# Altium integrated library Altium Nanoboard Project.IntLib: 55 symbols
Pins are listed as number, name and electrical type; pins without a type are passive.

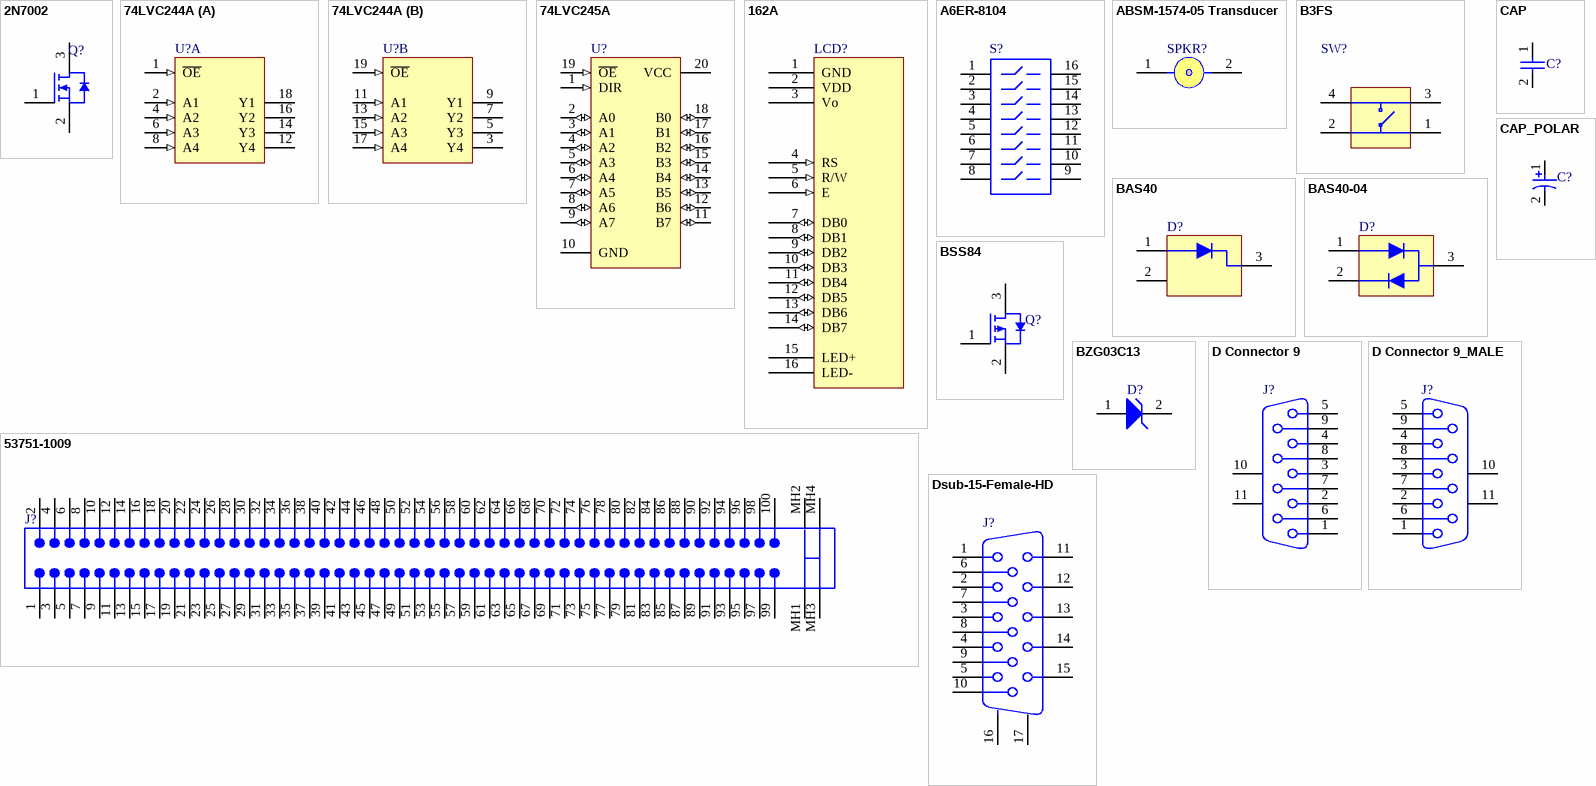
[diagram p0: symbols 2N7002 to Dsub-15-Female-HD]

## 2N7002
designator Q?
N-Channel Enhancement Mode FET; Published: 5-Jan-2004; DatasheetDocument: Rev A1, 1997; Publisher: Altium Limited
footprint SO-G3 (SOT-23; 3 Leads; 1.9mm x 2.2 mm (LxW))
pcadlib SO-G3 (SOT-23; 3 Leads; 1.9mm x 2.2 mm (LxW))
pins: 1 G "Gate", 2 S "Source", 3 D "Drain"

## 74LVC244A
designator U?
Octal Buffer/Driver with 3-State Outputs; Published: 5-Jan-2004; DatasheetDocument: Aug-2003; Publisher: Altium Limited
footprint SSO-G20/P.65 (SSOP; 20 Leads; Body Width 5.3 mm; Pitch 0.65 mm)
pcadlib SSO-G20/P.65 (SSOP; 20 Leads; Body Width 5.3 mm; Pitch 0.65 mm)
pins on every part: 10 GND (power) hidden to GND, 20 VCC (power) hidden to VCC
part A pins: 1 ~{OE} (in), 2 A1 (in), 4 A2 (in), 6 A3 (in), 8 A4 (in), 12 Y4 (hiz), 14 Y3 (hiz), 16 Y2 (hiz), 18 Y1 (hiz)
part B pins: 3 Y4 (hiz), 5 Y3 (hiz), 7 Y2 (hiz), 9 Y1 (hiz), 11 A1 (in), 13 A2 (in), 15 A3 (in), 17 A4 (in), 19 ~{OE} (in)

## 74LVC245A
designator U?
Octal Bus Transceiver with 3-State Outputs; Published: 5-Jan-2004; DatasheetDocument: Aug-2003; Publisher: Altium Limited
footprint SSO-G20/P.65 (SSOP; 20 Leads; Body Width 5.3 mm; Pitch 0.65 mm)
pcadlib SSO-G20/P.65 (SSOP; 20 Leads; Body Width 5.3 mm; Pitch 0.65 mm)
pins: 1 DIR (in), 2 A0 (io), 3 A1 (io), 4 A2 (io), 5 A3 (io), 6 A4 (io), 7 A5 (io), 8 A6 (io), 9 A7 (io), 10 GND (power), 11 B7 (io), 12 B6 (io), 13 B5 (io), 14 B4 (io), 15 B3 (io), 16 B2 (io), 17 B1 (io), 18 B0 (io), 19 ~{OE} (in), 20 VCC (power)

## 162A
designator LCD?
16 char * 2 line LCD character display with b/light; Published: 5-Jan-2004; DatasheetDocument: 09-Aug-1999; Publisher: Altium Limited
footprint 162A (Displaytronic, ACM 1602K Series, LCD Module)
pcadlib 162A (Displaytronic, ACM 1602K Series, LCD Module)
pins: 1 GND (power) "VSS - 0V", 2 VDD (power) "VDD - 5V", 3 Vo (hiz) "Input Voltage For LCD", 4 RS (in) "H = Data Signal, L = Instrunction Signal", 5 R/W (in) "H = Read Mode, L = Write Mode", 6 E (in) "Chip Enable (H, H->L)", 7 DB0 (io) "Chip Enable (H, H->L)", 8 DB1 (io) "Chip Enable (H, H->L)", 9 DB2 (io) "Chip Enable (H, H->L)", 10 DB3 (io) "Chip Enable (H, H->L)", 11 DB4 (io) "Chip Enable (H, H->L)", 12 DB5 (io) "Chip Enable (H, H->L)", 13 DB6 (io) "Chip Enable (H, H->L)", 14 DB7 (io) "Chip Enable (H, H->L)", 15 LED+ (power) "LED Backlight +", 16 LED- (power) "LED Backlight -"

## 53751-1009
designator J?
Board-to-Board, Docking Station, 0.80mm (.031") Pitch, Shielded Plug, Vertical, Ultra Low Profile, SMT; Published: 5-Jan-2004; DatasheetDocument: 04-Feb-2002; Publisher: Altium Limited
footprint 53751 (Board-to-Board, Docking Station, 0.80mm (.031") Pitch, Shielded Plug, Vertical, Ultra Low Profile, SMT)
pcadlib 53751 (Board-to-Board, Docking Station, 0.80mm (.031") Pitch, Shielded Plug, Vertical, Ultra Low Profile, SMT)
pins: 1, 2, 3, 4, 5, 6, 7, 8, 9, 10, 11, 12, 13, 14, 15, 16, 17, 18, 19, 20, 21, 22, 23, 24, 25, 26, 27, 28, 29, 30, 31, 32, 33, 34, 35, 36, 37, 38, 39, 40, 41, 42, 43, 44, 45, 46, 47, 48, 49, 50, 51, 52, 53, 54, 55, 56, 57, 58, 59, 60, 61, 62, 63, 64, 65, 66, 67, 68, 69, 70, 71, 72, 73, 74, 75, 76, 77, 78, 79, 80, 81, 82, 83, 84, 85, 86, 87, 88, 89, 90, 91, 92, 93, 94, 95, 96, 97, 98, 99, 100, MH1, MH2, MH2A, MH2B, MH3, MH4, MH4A, MH4B
1 alternate drawing of the same symbol

## A6ER-8104
designator S?
4009 Series DIP Switch, Raised actuator; Published: 5-Jan-2004; Publisher: Altium Limited
footprint DIP-16-KEY (DIP; 16 Leads; Row Spacing 7.62 mm; Pitch 2.54 mm)
pcadlib DIP-16-KEY (DIP; 16 Leads; Row Spacing 7.62 mm; Pitch 2.54 mm)
pins: 1, 2, 3, 4, 5, 6, 7, 8, 9, 10, 11, 12, 13, 14, 15, 16

## ABSM-1574-05 Transducer
designator SPKR?
Magnetic transducer Buzzer; Published: 5-Jan-2004; DatasheetDocument: 17-Dec-2003; Publisher: Altium Limited
footprint ABSM-1574 (Surface Mount Magnetic Buzzer; Body 12.8 x 12.8 mm (LxW))
pcadlib ABSM-1574 (Surface Mount Magnetic Buzzer; Body 12.8 x 12.8 mm (LxW))
pins: 1, 1A, 2, 2A

## B3FS
designator SW?
SPNA SMD Keyboard Switch (TACT Switch); Published: 5-Jan-2004; Publisher: Altium Limited
footprint B3FS_SWITCH (Surface Mount DTSM Tact Switch; Body 6 x 6 mm (LxW))
pcadlib B3FS_SWITCH (Surface Mount DTSM Tact Switch; Body 6 x 6 mm (LxW))
pins: 1, 2, 3, 4

## BAS40
designator D?
Schottky Diode; Published: 5-Jan-2004; DatasheetDocument: Rev. 1.4, 14-Oct-03; Publisher: Altium Limited
footprint SO-G3 (SOT-23; 3 Leads; 1.9mm x 2.2 mm (LxW))
pcadlib SO-G3 (SOT-23; 3 Leads; 1.9mm x 2.2 mm (LxW))
pins: 1, 2, 3

## BAS40-04
designator D?
Dual Schottky Diode, series connected; Published: 5-Jan-2004; DatasheetDocument: Rev. 1.4, 14-Oct-03; Publisher: Altium Limited
footprint SO-G3 (SOT-23; 3 Leads; 1.9mm x 2.2 mm (LxW))
pcadlib SO-G3 (SOT-23; 3 Leads; 1.9mm x 2.2 mm (LxW))
pins: 1, 2, 3

## BSS84
designator Q?
P-Channel Enhancement Mode FET; Published: 5-Jan-2004; DatasheetDocument: RevB, July 2002; Publisher: Altium Limited
footprint SO-G3 (SOT-23; 3 Leads; 1.9mm x 2.2 mm (LxW))
pcadlib SO-G3 (SOT-23; 3 Leads; 1.9mm x 2.2 mm (LxW))
pins: 1 G "Gate", 2 S "Source", 3 D "Drain"

## BZG03C13
designator D?
Zener Diode, 6.2V, 5W; Published: 5-Jan-2004; DatasheetDocument: RevB, 21-Aug-2003; Publisher: Altium Limited
footprint DO214 (2 C-Bend Leads; Body 4.3 x 3.6 mm (LxW))
pcadlib DO214 (2 C-Bend Leads; Body 4.3 x 3.6 mm (LxW))
pins: 1 A, 2 K

## CAP
designator C?
Capacitor, Multi Layer Ceramic; Published: 5-Jan-2004; DatasheetDocument: 11-Apr-03; Publisher: Altium Limited
footprint CC2012-0805 (Surface Mount Capacitor; 0805 Case Size)
pcadlib CC2012-0805 (Surface Mount Capacitor; 0805 Case Size)
pins: 1, 2

## CAP_POLAR
designator C?
Capacitor, Tantalum; Published: 5-Jan-2004; DatasheetDocument: Oct-2002; Publisher: Altium Limited
footprint MCCT-B (Surface Mount Chip Capacitor; Tantalum; 1.9mm x 2.2 mm (LxW))
pcadlib MCCT-B (Surface Mount Chip Capacitor; Tantalum; 1.9mm x 2.2 mm (LxW))
pins: 1, 2

## D Connector 9
designator J?
7906 Series DSUB Right Angle Socket Assembly, 9 Positions; Published: 5-Jan-2004; Publisher: Altium Limited
footprint DSUB1.385-2H9 (7906 Series DSUB Right Angle Socket; Body Width, 30.81mm, 9 Positions)
pcadlib DSUB1.385-2H9 (7906 Series DSUB Right Angle Socket; Body Width, 30.81mm, 9 Positions)
pins: 1, 2, 3, 4, 5, 6, 7, 8, 9, 10 MH1, 11 MH2

## D Connector 9_MALE
designator J?
7906 Series DSUB Right Angle Plug Assembly, 9 Positions; Published: 5-Jan-2004; Publisher: Altium Limited
footprint DSUB1.9_MALE (7906 Series DSUB Right Angle Plug; Body Width, 30.81mm, 9 Positions)
pcadlib DSUB1.9_MALE (7906 Series DSUB Right Angle Plug; Body Width, 30.81mm, 9 Positions)
pins: 1, 2, 3, 4, 5, 6, 7, 8, 9, 10 MH1, 11 MH2

## Dsub-15-Female-HD
designator J?
7915 Series Dsub-15 High density VGA Female connector; Published: 5-Jan-2004; Publisher: Altium Limited
footprint DB15-VGA-Female (7915 Series DSUB Right Angle VGA Female connector; Body Width, 30.81mm, 15 Positions)
pcadlib DB15-VGA-Female (7915 Series DSUB Right Angle VGA Female connector; Body Width, 30.81mm, 15 Positions)
pins: 1 "Red Video", 2 "Green Video", 3 "Blue Video", 4 "Monitor ID Bit 2 (Ground)", 5 (power) "Ground", 6 (power) "Red Return (Ground)", 7 (power) "Green Return (Ground)", 8 (power) "Blue Return (Ground)", 9 "Key (not used)", 10 (power) "Sync Return (Ground)", 11 (power) "Monitor ID Bit 0 (Ground)", 12 "Monitor ID Bit 1 (Not Used)", 13 "Horizontal Zync", 14 "Vertical Sync", 15 "Vertical Sync", 16 MH1 "shield", 17 MH2 "shield"

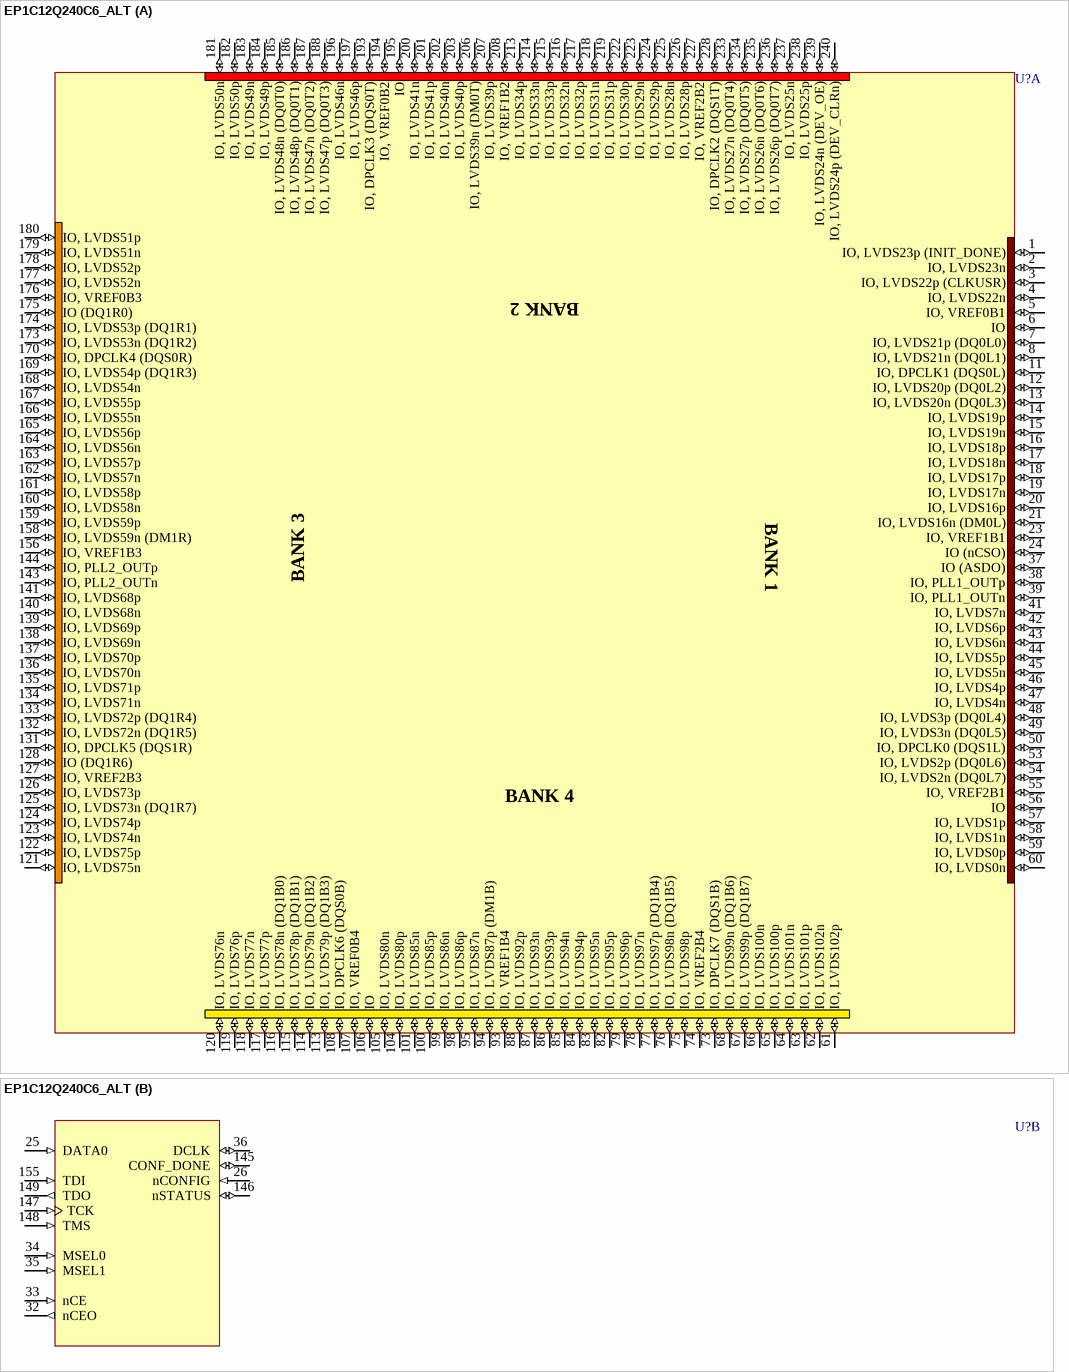
[diagram p1: symbol EP1C12Q240C6_ALT]

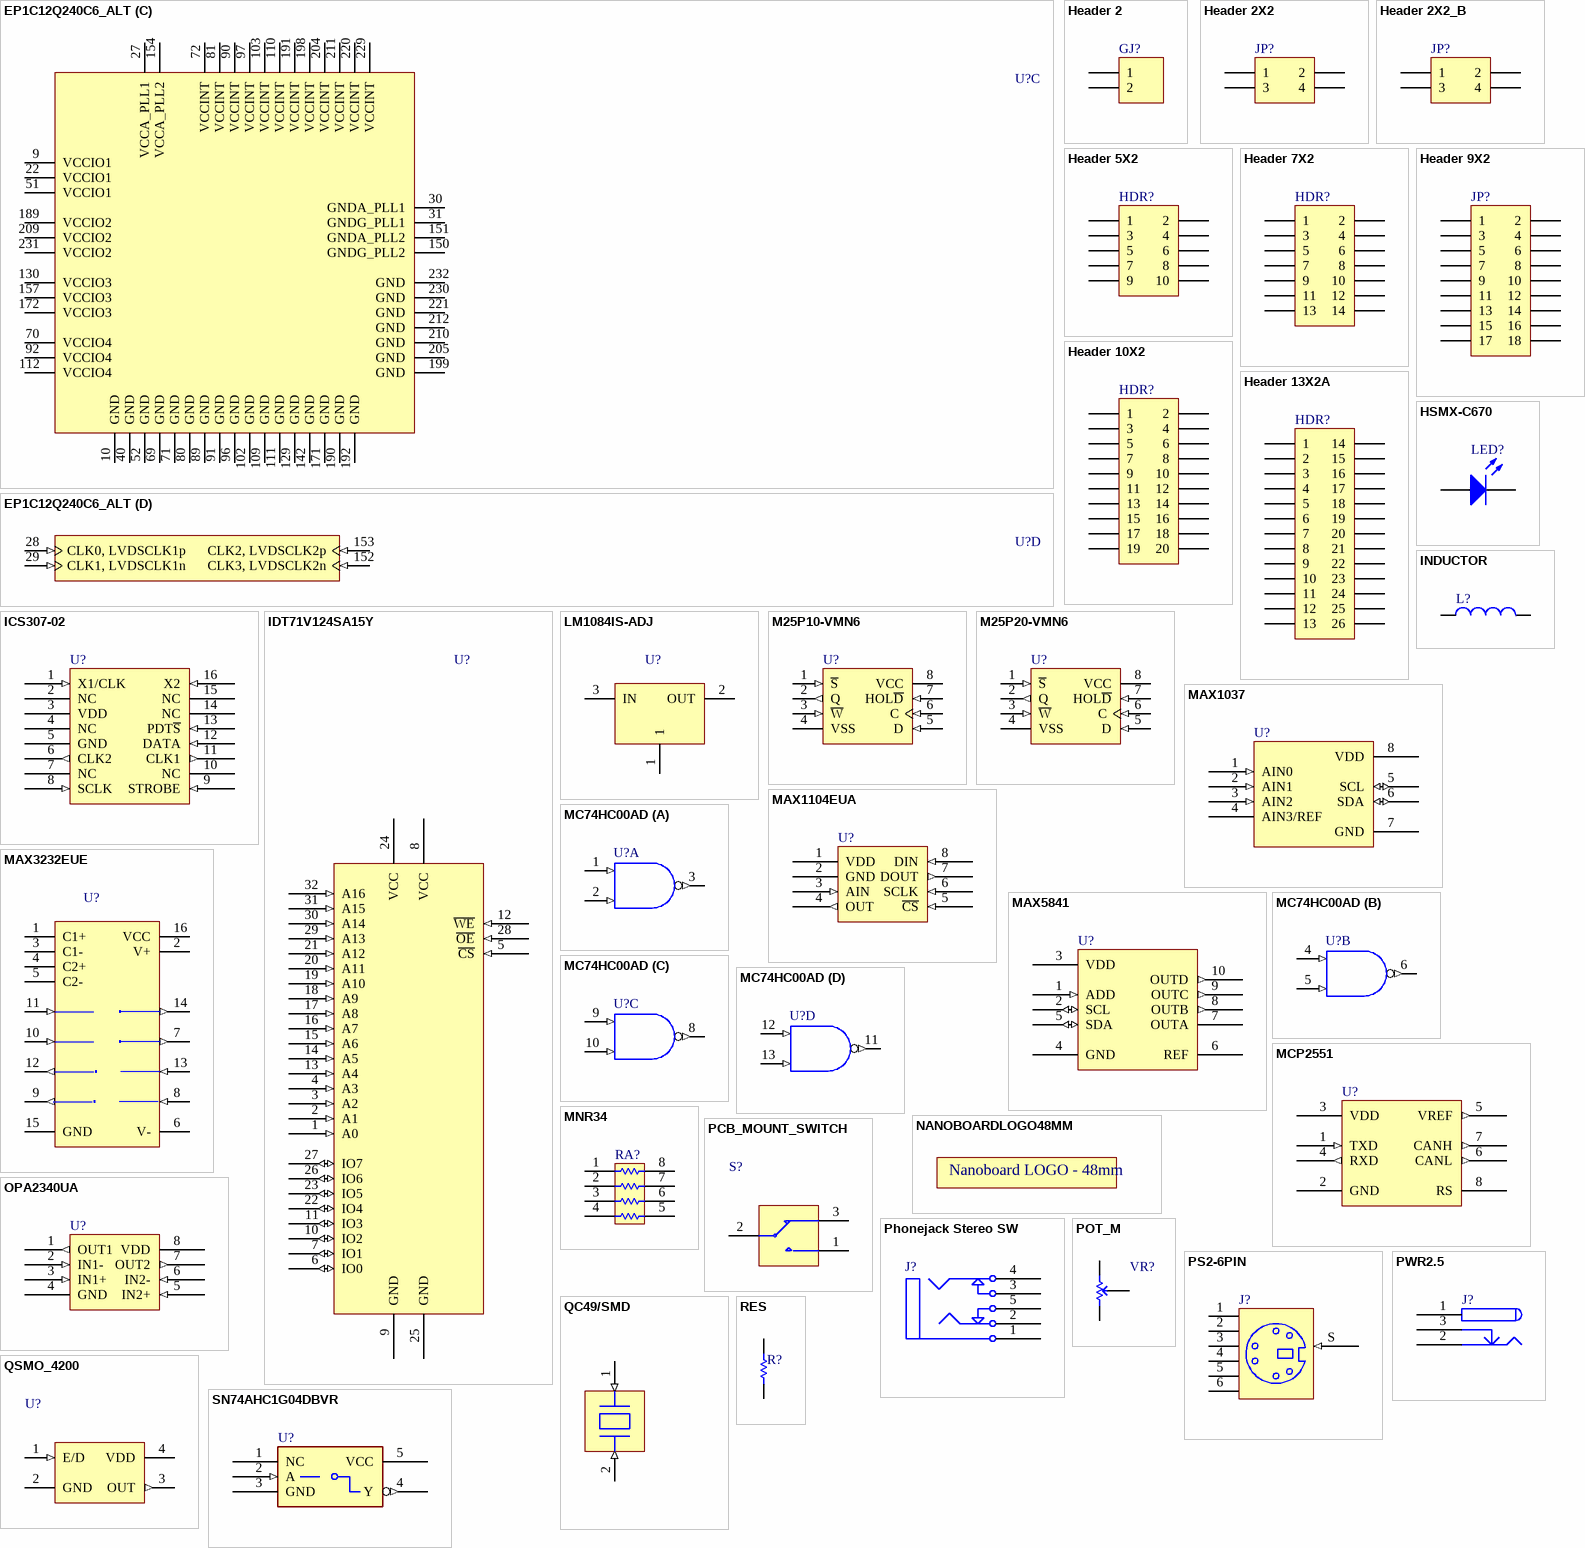
[diagram p2: symbols EP1C12Q240C6_ALT to SN74AHC1G04DBVR]

## EP1C12Q240C6_ALT
designator U?
Cyclone Family, 1.5V FPGA, 173 I/O Pins, 2 x PLLs, Commercial Grade, Speed Grade 6; PackageDocument: ver11.0, Feb-2003; Note: EP1C12Q240C6 in our IntLibs; Published: 17-Sep-2003; DatasheetDocument: ver1.3, Oct-2003; PackageReference: PQFP240; Publisher: Altium Limited; Code_JEDEC: MS-029-GA
footprint F-QFP32X32-G240/P.5N(RS) (240-Pin Plastic Quad Flat Pack (PQFP))
pcadlib F-QFP32X32-G240/P.5N(RS) (240-Pin Plastic Quad Flat Pack (PQFP))
3D model EP1C12-PQFP240 (240-Pin Plastic Quad Flat Pack (PQFP))
signal-integrity model 1c (Cyclone)
part A pins: 1 IO, LVDS23p (INIT_DONE) (io), 2 IO, LVDS23n (io), 3 IO, LVDS22p (CLKUSR) (io), 4 IO, LVDS22n (io), 5 IO, VREF0B1 (io), 6 IO (io), 7 IO, LVDS21p (DQ0L0) (io), 8 IO, LVDS21n (DQ0L1) (io), 11 IO, DPCLK1 (DQS0L) (io), 12 IO, LVDS20p (DQ0L2) (io), 13 IO, LVDS20n (DQ0L3) (io), 14 IO, LVDS19p (io), 15 IO, LVDS19n (io), 16 IO, LVDS18p (io), 17 IO, LVDS18n (io), 18 IO, LVDS17p (io), 19 IO, LVDS17n (io), 20 IO, LVDS16p (io), 21 IO, LVDS16n (DM0L) (io), 23 IO, VREF1B1 (io), 24 IO (nCSO) (io), 37 IO (ASDO) (io), 38 IO, PLL1_OUTp (io), 39 IO, PLL1_OUTn (io), 41 IO, LVDS7n (io), 42 IO, LVDS6p (io), 43 IO, LVDS6n (io), 44 IO, LVDS5p (io), 45 IO, LVDS5n (io), 46 IO, LVDS4p (io), 47 IO, LVDS4n (io), 48 IO, LVDS3p (DQ0L4) (io), 49 IO, LVDS3n (DQ0L5) (io), 50 IO, DPCLK0 (DQS1L) (io), 53 IO, LVDS2p (DQ0L6) (io), 54 IO, LVDS2n (DQ0L7) (io), 55 IO, VREF2B1 (io), 56 IO (io), 57 IO, LVDS1p (io), 58 IO, LVDS1n (io), 59 IO, LVDS0p (io), 60 IO, LVDS0n (io), 61 IO, LVDS102p (io), 62 IO, LVDS102n (io), 63 IO, LVDS101p (io), 64 IO, LVDS101n (io), 65 IO, LVDS100p (io), 66 IO, LVDS100n (io), 67 IO, LVDS99p (DQ1B7) (io), 68 IO, LVDS99n (DQ1B6) (io), 73 IO, DPCLK7 (DQS1B) (io), 74 IO, VREF2B4 (io), 75 IO, LVDS98p (io), 76 IO, LVDS98n (DQ1B5) (io), 77 IO, LVDS97p (DQ1B4) (io), 78 IO, LVDS97n (io), 79 IO, LVDS96p (io), 82 IO, LVDS95p (io), 83 IO, LVDS95n (io), 84 IO, LVDS94p (io), 85 IO, LVDS94n (io), 86 IO, LVDS93p (io), 87 IO, LVDS93n (io), 88 IO, LVDS92p (io), 93 IO, VREF1B4 (io), 94 IO, LVDS87p (DM1B) (io), 95 IO, LVDS87n (io), 98 IO, LVDS86p (io), 99 IO, LVDS86n (io), 100 IO, LVDS85p (io), 101 IO, LVDS85n (io), 104 IO, LVDS80p (io), 105 IO, LVDS80n (io), 106 IO (io), 107 IO, VREF0B4 (io), 108 IO, DPCLK6 (DQS0B) (io), 113 IO, LVDS79p (DQ1B3) (io), 114 IO, LVDS79n (DQ1B2) (io), 115 IO, LVDS78p (DQ1B1) (io), 116 IO, LVDS78n (DQ1B0) (io), 117 IO, LVDS77p (io), 118 IO, LVDS77n (io), 119 IO, LVDS76p (io), 120 IO, LVDS76n (io), 121 IO, LVDS75n (io), 122 IO, LVDS75p (io), 123 IO, LVDS74n (io), 124 IO, LVDS74p (io), 125 IO, LVDS73n (DQ1R7) (io), 126 IO, LVDS73p (io), 127 IO, VREF2B3 (io), 128 IO (DQ1R6) (io), 131 IO, DPCLK5 (DQS1R) (io), 132 IO, LVDS72n (DQ1R5) (io), 133 IO, LVDS72p (DQ1R4) (io), 134 IO, LVDS71n (io), 135 IO, LVDS71p (io), 136 IO, LVDS70n (io), 137 IO, LVDS70p (io), 138 IO, LVDS69n (io), 139 IO, LVDS69p (io), 140 IO, LVDS68n (io), 141 IO, LVDS68p (io), 143 IO, PLL2_OUTn (io), 144 IO, PLL2_OUTp (io), 156 IO, VREF1B3 (io), 158 IO, LVDS59n (DM1R) (io), 159 IO, LVDS59p (io), 160 IO, LVDS58n (io), 161 IO, LVDS58p (io), 162 IO, LVDS57n (io), 163 IO, LVDS57p (io), 164 IO, LVDS56n (io), 165 IO, LVDS56p (io), 166 IO, LVDS55n (io), 167 IO, LVDS55p (io), 168 IO, LVDS54n (io), 169 IO, LVDS54p (DQ1R3) (io), 170 IO, DPCLK4 (DQS0R) (io), 173 IO, LVDS53n (DQ1R2) (io), 174 IO, LVDS53p (DQ1R1) (io), 175 IO (DQ1R0) (io), 176 IO, VREF0B3 (io), 177 IO, LVDS52n (io), 178 IO, LVDS52p (io), 179 IO, LVDS51n (io), 180 IO, LVDS51p (io), 181 IO, LVDS50n (io), 182 IO, LVDS50p (io), 183 IO, LVDS49n (io), 184 IO, LVDS49p (io), 185 IO, LVDS48n (DQ0T0) (io), 186 IO, LVDS48p (DQ0T1) (io), 187 IO, LVDS47n (DQ0T2) (io), 188 IO, LVDS47p (DQ0T3) (io), 193 IO, DPCLK3 (DQS0T) (io), 194 IO, VREF0B2 (io), 195 IO (io), 196 IO, LVDS46n (io), 197 IO, LVDS46p (io), 200 IO, LVDS41n (io), 201 IO, LVDS41p (io), 202 IO, LVDS40n (io), 203 IO, LVDS40p (io), 206 IO, LVDS39n (DM0T) (io), 207 IO, LVDS39p (io), 208 IO, VREF1B2 (io), 213 IO, LVDS34p (io), 214 IO, LVDS33n (io), 215 IO, LVDS33p (io), 216 IO, LVDS32n (io), 217 IO, LVDS32p (io), 218 IO, LVDS31n (io), 219 IO, LVDS31p (io), 222 IO, LVDS30p (io), 223 IO, LVDS29n (io), 224 IO, LVDS29p (io), 225 IO, LVDS28n (io), 226 IO, LVDS28p (io), 227 IO, VREF2B2 (io), 228 IO, DPCLK2 (DQS1T) (io), 233 IO, LVDS27n (DQ0T4) (io), 234 IO, LVDS27p (DQ0T5) (io), 235 IO, LVDS26n (DQ0T6) (io), 236 IO, LVDS26p (DQ0T7) (io), 237 IO, LVDS25n (io), 238 IO, LVDS25p (io), 239 IO, LVDS24n (DEV_OE) (io), 240 IO, LVDS24p (DEV_CLRn) (io)
part B pins: 25 DATA0 (in), 26 nCONFIG (in), 32 nCEO (out), 33 nCE (in), 34 MSEL0 (in), 35 MSEL1 (in), 36 DCLK (io), 145 CONF_DONE (io), 146 nSTATUS (io), 147 TCK (in), 148 TMS (in), 149 TDO (out), 155 TDI (in)
part C pins: 9 VCCIO1 (power), 10 GND (power), 22 VCCIO1 (power), 27 VCCA_PLL1 (power), 30 GNDA_PLL1 (power), 31 GNDG_PLL1 (power), 40 GND (power), 51 VCCIO1 (power), 52 GND (power), 69 GND (power), 70 VCCIO4 (power), 71 GND (power), 72 VCCINT (power), 80 GND (power), 81 VCCINT (power), 89 GND (power), 90 VCCINT (power), 91 GND (power), 92 VCCIO4 (power), 96 GND (power), 97 VCCINT (power), 102 GND (power), 103 VCCINT (power), 109 GND (power), 110 VCCINT (power), 111 GND (power), 112 VCCIO4 (power), 129 GND (power), 130 VCCIO3 (power), 142 GND (power), 150 GNDG_PLL2 (power), 151 GNDA_PLL2 (power), 154 VCCA_PLL2 (power), 157 VCCIO3 (power), 171 GND (power), 172 VCCIO3 (power), 189 VCCIO2 (power), 190 GND (power), 191 VCCINT (power), 192 GND (power), 198 VCCINT (power), 199 GND (power), 204 VCCINT (power), 205 GND (power), 209 VCCIO2 (power), 210 GND (power), 211 VCCINT (power), 212 GND (power), 220 VCCINT (power), 221 GND (power), 229 VCCINT (power), 230 GND (power), 231 VCCIO2 (power), 232 GND (power)
part D pins: 28 CLK0, LVDSCLK1p (in), 29 CLK1, LVDSCLK1n (in), 152 CLK3, LVDSCLK2n (in), 153 CLK2, LVDSCLK2p (in)
part A text: BANK 2; BANK 1; BANK 3; BANK 4

## Header 2
designator GJ?
2011 Series Header, 2 Pins, 2.54mm pitch; Published: 5-Jan-2004; Publisher: Altium Limited
footprint HDR1X2 (2011 Series Header, 2 Pins, 2.54mm Pitch)
pcadlib HDR1X2 (2011 Series Header, 2 Pins, 2.54mm Pitch)
pins: 1, 2

## Header 2X2
designator JP?
2011 Series Header, 4 Pins, Dual row, 2.54mil pitch; Published: 5-Jan-2004; Publisher: Altium Limited
footprint HDR2X2 (2011 Series Header, 4 Pins, Dual Row, 2.54mm Pitch)
pcadlib HDR2X2 (2011 Series Header, 4 Pins, Dual Row, 2.54mm Pitch)
pins: 1, 2, 3, 4

## Header 2X2_B
designator JP?
2011 Series Header, 4 Pins, Dual row, 2.54mil pitch; Published: 5-Jan-2004; Publisher: Altium Limited
footprint HDR2X2_B (2011 Series Header, 4 Pins, Dual Row, 2.54mm Pitch)
pcadlib HDR2X2_B (2011 Series Header, 4 Pins, Dual Row, 2.54mm Pitch)
pins: 1, 2, 3, 4

## Header 5X2
designator HDR?
2011 Series Header, 10 Pins, Dual row, 2.54mm pitch; Published: 5-Jan-2004; Publisher: Altium Limited
footprint HDR2X5 (2011 Series Header, 10 Pins, Dual Row, 2.54mm Pitch)
pcadlib HDR2X5 (2011 Series Header, 10 Pins, Dual Row, 2.54mm Pitch)
pins: 1, 2, 3, 4, 5, 6, 7, 8, 9, 10

## Header 7X2
designator HDR?
2011 Series Header, 14 Pins, Dual row, 2.54mm pitch; Published: 5-Jan-2004; Publisher: Altium Limited
footprint HDR2X7 (2011 Series Header, 14 Pins, Dual Row, 2.54mm Pitch)
pcadlib HDR2X7 (2011 Series Header, 14 Pins, Dual Row, 2.54mm Pitch)
pins: 1, 2, 3, 4, 5, 6, 7, 8, 9, 10, 11, 12, 13, 14

## Header 9X2
designator JP?
2011 Series Header, 18 Pins, Dual row, 2.54mm pitch; Published: 5-Jan-2004; Publisher: Altium Limited
footprint HDR2X9 (2011 Series Header, 18 Pins, Dual Row, 2.54mm Pitch)
pcadlib HDR2X9 (2011 Series Header, 18 Pins, Dual Row, 2.54mm Pitch)
pins: 1, 2, 3, 4, 5, 6, 7, 8, 9, 10, 11, 12, 13, 14, 15, 16, 17, 18

## Header 10X2
designator HDR?
2011 Series Header, 20 Pins, Dual row, 2.54mm pitch; Published: 5-Jan-2004; Publisher: Altium Limited
footprint HDR2X10 (2011 Series Header, 20 Pins, Dual Row, 2.54mm Pitch)
pcadlib HDR2X10 (2011 Series Header, 20 Pins, Dual Row, 2.54mm Pitch)
pins: 1, 2, 3, 4, 5, 6, 7, 8, 9, 10, 11, 12, 13, 14, 15, 16, 17, 18, 19, 20

## Header 13X2A
designator HDR?
3012 Series Box Header, 26 Pins, Dual Row, 2.54mm pitch, Low Profile Vertical; Published: 5-Jan-2004; Publisher: Altium Limited
footprint HDR2X13_CEN_LP (3012 Series Box Header, 26 Pins, Dual Row, 2.54mm Pitch)
pcadlib HDR2X13_CEN_LP (3012 Series Box Header, 26 Pins, Dual Row, 2.54mm Pitch)
pins: 1, 2, 3, 4, 5, 6, 7, 8, 9, 10, 11, 12, 13, 14, 15, 16, 17, 18, 19, 20, 21, 22, 23, 24, 25, 26

## HSMX-C670
designator LED?
RED AS AlGaAs SMD LED; Published: 5-Jan-2004; DatasheetDocument: 30-Apr-2002; Publisher: Altium Limited
footprint SMD _LED (RED AS AlGaAs SMD LED, Body; 2mm x 1.25 mm (LxW))
pcadlib SMD _LED (RED AS AlGaAs SMD LED, Body; 2mm x 1.25 mm (LxW))
pins: 1 A, 2 K

## ICS307-02
designator U?
Serially Programmable Clock Source; Published: 5-Jan-2004; DatasheetDocument: 03-Jun-2003; Publisher: Altium Limited
footprint SO-G16 (Small Outline; 16 Leads; Body Width 3.5 mm; Pitch 1.27 mm)
pcadlib SO-G16 (Small Outline; 16 Leads; Body Width 3.5 mm; Pitch 1.27 mm)
pins: 1 X1/CLK (in) "Reference Word Devider Input", 2 NC "Reference Word Devider Input", 3 VDD (power) "Positive Supply, 3V3 or 5V", 4 NC, 5 GND (power), 6 CLK2 (out) "Fixed Clock Ref", 7 NC "Crystal connection", 8 SCLK (in) "Serial Programming Clock", 9 STROBE (in) "Serial Programming Strobe", 10 NC, 11 CLK1 (out) "Variable Clock Output", 12 DATA (in) "Serial Programming Data", 13 PDT~{S} (in) "Low = TriState CLK1 and CLK2 and Power Down", 14 NC, 15 NC, 16 X2 (in) "Crystal Terminal"

## IDT71V124SA15Y
designator U?
CMOS Static RAM, 3.3V, 128K x 8 bit; Published: 5-Jan-2004; DatasheetDocument: 30-Nov-2003; Publisher: Altium Limited
footprint SO-J32 (SOJ; 32 Leads; Body Width 7.5 mm; Pitch 1.27 mm)
pcadlib SO-J32 (SOJ; 32 Leads; Body Width 7.5 mm; Pitch 1.27 mm)
pins: 1 A0 (in) "Address 0", 2 A1 (in) "Address 1", 3 A2 (in) "Address 3", 4 A3 (in) "Address 3", 5 ~{CS} (in) "Chip Select", 6 IO0 (io) "Data 0", 7 IO1 (io) "Data 1", 8 VCC (power) "Pos Supply", 9 GND (power), 10 IO2 (io) "Data 2", 11 IO3 (io) "Data 3", 12 ~{WE} (in) "Write Enable", 13 A4 (in) "Address 4", 14 A5 (in) "Address 5", 15 A6 (in) "Address 6", 16 A7 (in) "Address 7", 17 A8 (in) "Address 8", 18 A9 (in) "Address 9", 19 A10 (in) "Address 10", 20 A11 (in) "Address 11", 21 A12 (in) "Address 12", 22 IO4 (io) "Data 4", 23 IO5 (io) "Data 5", 24 VCC (power) "Pos Supply", 25 GND (power), 26 IO6 (io) "Data 6", 27 IO7 (io) "Data 7", 28 ~{OE} (in) "Output Enable", 29 A13 (in) "Address 13", 30 A14 (in) "Address 14", 31 A15 (in) "Address 15", 32 A16 (in) "Address 16"

## INDUCTOR
designator L?
CM453232 Series Wirewound Inductor, 330uH; Published: 5-Jan-2004; DatasheetDocument: RevA, 02/02; Publisher: Altium Limited
footprint CC4532-1812 (Surface Mount Chip Inductor; 4mm x 3.4 mm (LxW))
pcadlib CC4532-1812 (Surface Mount Chip Inductor; 4mm x 3.4 mm (LxW))
pins: 1, 2

## LM1084IS-ADJ
designator U?
5A Low Dropout Positive Regulators; Published: 5-Jan-2004; DatasheetDocument: Aug-2002; Publisher: Altium Limited
footprint TO-263 (TO-263-AB; 3 Leads (1 Cropped); Body 14.35 (inc. leads) x 10.41 mm (LxW max))
pcadlib TO-263 (TO-263-AB; 3 Leads (1 Cropped); Body 14.35 (inc. leads) x 10.41 mm (LxW max))
pins: 1 "Output", 2 OUT (power) "Output", 3 IN (power) "Input"

## M25P10-VMN6
designator U?
8 Mbit, Low Voltage, Serial Flash Memory With 40 MHz SPI Bus Interface; Published: 5-Jan-2004; DatasheetDocument: Nov-2003; Publisher: Altium Limited
footprint SO8_MW/SO8_MN (Small Outline; 8 Leads; Body Width 5.2 mm; Pitch 1.27 mm)
pcadlib SO8_MW/SO8_MN (Small Outline; 8 Leads; Body Width 5.2 mm; Pitch 1.27 mm)
pins: 1 ~{S} (in), 2 Q (out) "Serial Output", 3 ~{W} (in) "Serial Output", 4 VSS (power) "Serial Output", 5 D (in) "Serial Input", 6 C (in) "Serial Input", 7 HOL~{D} (in) "Serial Input", 8 VCC (power) "Serial Input"

## M25P20-VMN6
designator U?
8 Mbit, Low Voltage, Serial Flash Memory With 40 MHz SPI Bus Interface; Published: 5-Jan-2004; DatasheetDocument: Nov-2003; Publisher: Altium Limited
footprint SO8_MW/SO8_MN (Small Outline; 8 Leads; Body Width 5.2 mm; Pitch 1.27 mm)
pcadlib SO8_MW/SO8_MN (Small Outline; 8 Leads; Body Width 5.2 mm; Pitch 1.27 mm)
pins: 1 ~{S} (in), 2 Q (out) "Serial Output", 3 ~{W} (in) "Serial Output", 4 VSS (power) "Serial Output", 5 D (in) "Serial Input", 6 C (in) "Serial Input", 7 HOL~{D} (in) "Serial Input", 8 VCC (power) "Serial Input"

## MAX1037
designator U?
4 Channel 8 Bit ADC, I2C interface, 2.7V to 3.6V Supply; Published: 5-Jan-2004; DatasheetDocument: Rev1, Oct-2002; Publisher: Altium Limited
footprint SOT23_8 (Small Outline; 8 Leads; Body 2.9 x 1.6 mm (LxW max))
pcadlib SOT23_8 (Small Outline; 8 Leads; Body 2.9 x 1.6 mm (LxW max))
pins: 1 AIN0 (in) "Analog Input 0", 2 AIN1 (in) "Analog Input 0", 3 AIN2 (in) "Analog Input 0", 4 AIN3/REF (power) "Analog Input 3/ Reference Input", 5 SCL (io) "I2C Clock Line", 6 SDA (io) "I2C Data Line", 7 GND (power), 8 VDD (power) "Positive Supply"

## MAX1104EUA
designator U?
8 bit CODEC with 4 wire logic interface; Published: 5-Jan-2004; DatasheetDocument: Rev0, Dec-2000; Publisher: Altium Limited
footprint TSSO3x5-G8/X.35 (Shrink Small Outline; 8 Leads; Body Width 3 mm; Pitch 0.65 mm)
pcadlib TSSO3x5-G8/X.35 (Shrink Small Outline; 8 Leads; Body Width 3 mm; Pitch 0.65 mm)
pins: 1 VDD (power) "Positive Supply 2V7 5V5", 2 GND (power), 3 AIN (in) "Analog Input", 4 OUT (out) "Analog Output", 5 ~{CS} (in) "Chip Select", 6 SCLK (in) "Serial Clock", 7 DOUT (out) "Serial Output", 8 DIN (in) "SPI Serial Input"

## MAX3232EUE
designator U?
3.0V TO 5.5V, Low-Power, up to 1Mbps, True RS-232 Transceiver Using Four 0.1µF External Capacitor; Published: 5-Jan-2004; DatasheetDocument: Rev5, Mar-1999; Publisher: Altium Limited
footprint SO-G16 (Small Outline; 16 Leads; Body Width 3.9 mm; Pitch 1.27 mm)
pcadlib SO-G16 (Small Outline; 16 Leads; Body Width 3.9 mm; Pitch 1.27 mm)
pins: 1 C1+, 2 V+ (power), 3 C1-, 4 C2+, 5 C2-, 6 V- (power), 7 T2OUT (out), 8 R2IN (in), 9 R2OUT (out), 10 T2IN (in), 11 T1IN (in), 12 R1OUT (out), 13 R1IN (in), 14 T1OUT (out), 15 GND (power), 16 VCC (power)

## MAX5841
designator U?
4 Channel DAC, I2C, 2.7V to 5.5V; Published: 5-Jan-2004; DatasheetDocument: Rev0, Jan-2002; Publisher: Altium Limited
footprint USOP10 (Shrink Small Outline; 10 Leads; Body Width 3 mm; Pitch 0.5 mm)
pcadlib USOP10 (Shrink Small Outline; 10 Leads; Body Width 3 mm; Pitch 0.5 mm)
pins: 1 ADD (in) "I2C Address Select", 2 SCL (io) "I2C Clock", 3 VDD (power) "Positive Supply 2.7V to 5.5V", 4 GND (power), 5 SDA (io) "GND", 6 REF "Reference Voltage Input 1V to VDD", 7 OUTA "DAC Output", 8 OUTB (out) "DAC Output", 9 OUTC (out) "DAC Output", 10 OUTD (out) "DAC Output"

## MC74HC00AD
designator U?
Quad 2-Input NAND Gate; Published: 5-Jan-2004; DatasheetDocument: Sep-2003; Publisher: Altium Limited
footprint SO-G14/Y2.2 (Small Outline; 14 Leads; Body Width 3.9 mm; Pitch 1.27 mm)
pcadlib SO-G14/Y2.2 (Small Outline; 14 Leads; Body Width 3.9 mm; Pitch 1.27 mm)
pins on every part: 7 GND (power) hidden to GND, 14 VDD (power) hidden to VCC
part A pins: 1 A (in), 2 B (in), 3 Y (out)
part B pins: 4 A (in), 5 B (in), 6 Y (out)
part C pins: 8 Y (out), 9 A (in), 10 B (in)
part D pins: 11 Y (out), 12 A (in), 13 B (in)

## MCP2551
designator U?
High Speed Can Transceiver; Published: 5-Jan-2004; DatasheetDocument: 28-Jul-2003; Publisher: Altium Limited
footprint SOIC8 (Small Outline; 8 Leads; Body Width 3.9 mm; Pitch 1.27 mm)
pcadlib SOIC8 (Small Outline; 8 Leads; Body Width 3.9 mm; Pitch 1.27 mm)
pins: 1 TXD (in) "Screw Terminal", 2 GND (power), 3 VDD (power) "Positive Supply 4.5V to 5.5V", 4 RXD (out) "Receive Data", 5 VREF (out) "Reference Voltage", 6 CANL (out) "CAN Bus Low Line", 7 CANH (out) "CAN Bus High Line", 8 RS "Mode/Slope Setting"

## MNR34
designator RA?
Resistor Array, 8 pin, 4 Element, 100 Ohms; Published: 5-Jan-2004; DatasheetDocument: 07-Jun-2001; Publisher: Altium Limited
footprint MNR34 (Surface Mount, Chip Resistor Array; 5.2mm x 3.1 mm (LxW))
pcadlib MNR34 (Surface Mount, Chip Resistor Array; 5.2mm x 3.1 mm (LxW))
pins: 1, 2, 3, 4, 5, 6, 7, 8

## NANOBOARDLOGO48MM
designator ?  (graphical)
Altium Logo; Published: 5-Jan-2004; Publisher: Altium Limited
footprint NanoBoard1_LOGO (NanoBoard Logo)
pcadlib NanoBoard1_LOGO (NanoBoard Logo)
text: Nanoboard LOGO - 48mm

## OPA2340UA
designator U?
Dual Operational Amplifier, Single-Supply, Rail-to-Rail; Published: 5-Jan-2004; DatasheetDocument: 03-Oct-2003; Publisher: Altium Limited
footprint SO-G8 (Small Outline; 8 Leads; Body Width 3.5 mm; Pitch 1.27 mm)
pcadlib SO-G8 (Small Outline; 8 Leads; Body Width 3.5 mm; Pitch 1.27 mm)
pins: 1 OUT1 (out), 2 IN1- (in), 3 IN1+ (in), 4 GND (power), 5 IN2+ (in), 6 IN2- (in), 7 OUT2 (out), 8 VDD (power)

## PCB_MOUNT_SWITCH
designator S?
SPDT Subminiature Toggle Switch, Right Angle Mounting, Vertical Actuation; Published: 5-Jan-2004; DatasheetDocument: 05-Dec-2000; Publisher: Altium Limited
footprint TL36WW15050 (SPDT Subminiature Toggle Switch, Right Angle Mounting, Vertical Actuation)
pcadlib TL36WW15050 (SPDT Subminiature Toggle Switch, Right Angle Mounting, Vertical Actuation)
pins: 1, 2, 3

## Phonejack Stereo SW
designator J?
3.5mm Audio Jack, Stereo; Published: 5-Jan-2004; DatasheetDocument: 07-Mar-2000; Publisher: Altium Limited
footprint ST-3150-5N (Stereo Jack, 3.5mm, 5 Position)
pcadlib ST-3150-5N (Stereo Jack, 3.5mm, 5 Position)
pins: 1, 1A, 1B, 2, 2A, 2B, 3, 3A, 3B, 4, 4A, 4B, 5, 5A, 5B

## POT_M
designator VR?
100k Ohms Square Trimming Potentiometer; Published: 5-Jan-2004; DatasheetDocument: Oct-2003; Publisher: Altium Limited
footprint POT4MM-2 (Surface Mount, Square Trimming Potentiometer, Body 4.5mm x 4.5mm (LxW))
pcadlib POT4MM-2 (Surface Mount, Square Trimming Potentiometer, Body 4.5mm x 4.5mm (LxW))
pins: CCW -, CW +, W

## PS2-6PIN
designator J?
6 Pin Through Hole PS2 Socket (Kycon P/N); Published: 5-Jan-2004; Publisher: Altium Limited
footprint PS2-6PIN (PS2 Socket, 6 Pin, Through Hole)
pcadlib PS2-6PIN (PS2 Socket, 6 Pin, Through Hole)
pins: 1, 2, 3, 4, 5, 6, S (in)

## PWR2.5
designator J?
DC Power Jack, 2.5mm, KLD Series, PCB Mount; Published: 5-Jan-2004; DatasheetDocument: 09-May-2002; Publisher: Altium Limited
footprint KLD-0202 (DC Power Jack, 2.5mm, KLD Series, PCB Mount)
pcadlib KLD-0202 (DC Power Jack, 2.5mm, KLD Series, PCB Mount)
pins: 1 (power), 1A (power), 1B (power), 2 (power), 2A (power), 2B (power), 3 (power), 3A (power), 3B (power)

## QC49/SMD
designator CR?
Hy-Q QC49/SSMD Crystal, 20MHz; Published: 5-Jan-2004; DatasheetDocument: 07-Apr-1999; Publisher: Altium Limited
footprint QC49/SMD (Surface Mount 20MHz Crystal, 12.9mm x 4.8mm (LxW))
pcadlib QC49/SMD (Surface Mount 20MHz Crystal, 12.9mm x 4.8mm (LxW))
pins: 1 (in), 2 (in)

## QSMO_4200
designator U?
QSMO - 4200 SERIES, 40MHz, SURFACE MOUNT CRYSTAL OSCILLATOR; Published: 5-Jan-2004; DatasheetDocument: 15-Jul-02; Publisher: Altium Limited
footprint QSMO_4200 (Surface Mount 40MHz Crystal, 7.5mm x 5mm (LxW))
pcadlib QSMO_4200 (Surface Mount 40MHz Crystal, 7.5mm x 5mm (LxW))
pins: 1 E/D (in) "Low Disables Clock", 2 GND (power), 3 OUT (out) "Output", 4 VDD (power)

## RES
designator R?
Resistor; Published: 5-Jan-2004; DatasheetDocument: Nov-2002; Publisher: Altium Limited
footprint CC2012-0805 (Surface Mount Resistor; 0805 Case Size)
pcadlib CC2012-0805 (Surface Mount Resistor; 0805 Case Size)
pins: 1, 2

## SN74AHC1G04DBVR
designator U?
Single Gate Inverter; Published: 5-Jan-2004; DatasheetDocument: Sep-2003; Publisher: Altium Limited
footprint SO-G5/P.95 (Small Outline; 5 Leads; Body 2 x 1.25 mm (LxW))
pcadlib SO-G5/P.95 (Small Outline; 5 Leads; Body 2 x 1.25 mm (LxW))
pins: 1 NC, 2 A (in), 3 GND (power), 4 Y (out), 5 VCC (power)

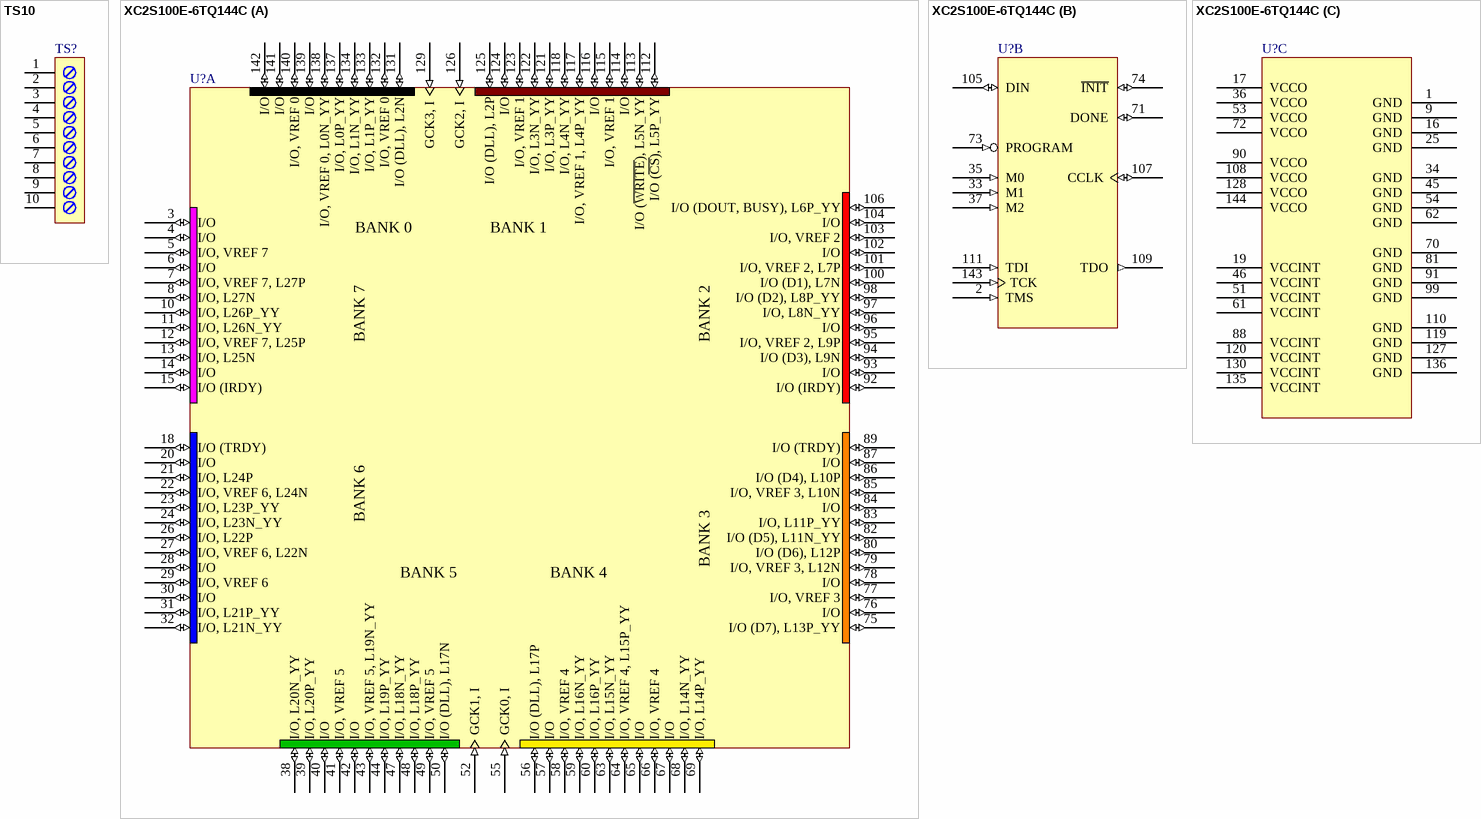
[diagram p3: symbols TS10 to XC2S100E-6TQ144C]

## TS10
designator TS?
Screw Terminal Strip, 10 Way, 2.54 mm Pitch; Published: 5-Jan-2004; DatasheetDocument: 15-Dec-03; Publisher: Altium Limited
footprint TS2.54x10 (Screw Terminal Strip, 10 Way, 2.54 mm Pitch)
pcadlib TS2.54x10 (Screw Terminal Strip, 10 Way, 2.54 mm Pitch)
pins: 1 "Screw Terminal", 2 "Screw Terminal", 3 "Screw Terminal", 4 "Screw Terminal", 5 "Screw Terminal", 6 "Screw Terminal", 7 "Screw Terminal", 8 "Screw Terminal", 9 "Screw Terminal", 10 "Screw Terminal"

## XC2S100E-6TQ144C
designator U?
Spartan-IIE 1.8V FPGA, 144-Pin TQFP, Standard Performance, Commercial Grade; Published: 5-Jan-2004; DatasheetDocument: Ver2.1, July 9, 2003; PackageReference: TQ144; Publisher: Altium Limited
footprint TQ144 (144-Pin Thin Quad Flat Pack (TQ144))
pcadlib TQ144 (144-Pin Thin Quad Flat Pack (TQ144))
part A pins: 3 I/O (io), 4 I/O (io), 5 I/O, VREF 7 (io), 6 I/O (io), 7 I/O, VREF 7, L27P (io), 8 I/O, L27N (io), 10 I/O, L26P_YY (io), 11 I/O, L26N_YY (io), 12 I/O, VREF 7, L25P (io), 13 I/O, L25N (io), 14 I/O (io), 15 I/O (IRDY) (io), 18 I/O (TRDY) (io), 20 I/O (io), 21 I/O, L24P (io), 22 I/O, VREF 6, L24N (io), 23 I/O, L23P_YY (io), 24 I/O, L23N_YY (io), 26 I/O, L22P (io), 27 I/O, VREF 6, L22N (io), 28 I/O (io), 29 I/O, VREF 6 (io), 30 I/O (io), 31 I/O, L21P_YY (io), 32 I/O, L21N_YY (io), 38 I/O, L20N_YY (io), 39 I/O, L20P_YY (io), 40 I/O (io), 41 I/O, VREF 5 (io), 42 I/O (io), 43 I/O, VREF 5, L19N_YY (io), 44 I/O, L19P_YY (io), 47 I/O, L18N_YY (io), 48 I/O, L18P_YY (io), 49 I/O, VREF 5 (io), 50 I/O (DLL), L17N (io), 52 GCK1, I (in), 55 GCK0, I (in), 56 I/O (DLL), L17P (io), 57 I/O (io), 58 I/O, VREF 4 (io), 59 I/O, L16N_YY (io), 60 I/O, L16P_YY (io), 63 I/O, L15N_YY (io), 64 I/O, VREF 4, L15P_YY (io), 65 I/O (io), 66 I/O, VREF 4 (io), 67 I/O (io), 68 I/O, L14N_YY (io), 69 I/O, L14P_YY (io), 75 I/O (D7), L13P_YY (io), 76 I/O (io), 77 I/O, VREF 3 (io), 78 I/O (io), 79 I/O, VREF 3, L12N (io), 80 I/O (D6), L12P (io), 82 I/O (D5), L11N_YY (io), 83 I/O, L11P_YY (io), 84 I/O (io), 85 I/O, VREF 3, L10N (io), 86 I/O (D4), L10P (io), 87 I/O (io), 89 I/O (TRDY) (io), 92 I/O (IRDY) (io), 93 I/O (io), 94 I/O (D3), L9N (io), 95 I/O, VREF 2, L9P (io), 96 I/O (io), 97 I/O, L8N_YY (io), 98 I/O (D2), L8P_YY (io), 100 I/O (D1), L7N (io), 101 I/O, VREF 2, L7P (io), 102 I/O (io), 103 I/O, VREF 2 (io), 104 I/O (io), 106 I/O (DOUT, BUSY), L6P_YY (io), 112 I/O (~{CS}), L5P_YY (io), 113 I/O (~{WRITE}), L5N_YY (io), 114 I/O (io), 115 I/O, VREF 1 (io), 116 I/O (io), 117 I/O, VREF 1, L4P_YY (io), 118 I/O, L4N_YY (io), 121 I/O, L3P_YY (io), 122 I/O, L3N_YY (io), 123 I/O, VREF 1 (io), 124 I/O (io), 125 I/O (DLL), L2P (io), 126 GCK2, I (in), 129 GCK3, I (in), 131 I/O (DLL), L2N (io), 132 I/O, VREF 0 (io), 133 I/O, L1P_YY (io), 134 I/O, L1N_YY (io), 137 I/O, L0P_YY (io), 138 I/O, VREF 0, L0N_YY (io), 139 I/O (io), 140 I/O, VREF 0 (io), 141 I/O (io), 142 I/O (io)
part B pins: 2 TMS (in), 33 M1 (in), 35 M0 (in), 37 M2 (in), 71 DONE (io), 73 PROGRAM (in), 74 ~{INIT} (io), 105 DIN (io), 107 CCLK (io), 109 TDO (out), 111 TDI (in), 143 TCK (in)
part C pins: 1 GND (power), 9 GND (power), 16 GND (power), 17 VCCO (power), 19 VCCINT (power), 25 GND (power), 34 GND (power), 36 VCCO (power), 45 GND (power), 46 VCCINT (power), 51 VCCINT (power), 53 VCCO (power), 54 GND (power), 61 VCCINT (power), 62 GND (power), 70 GND (power), 72 VCCO (power), 81 GND (power), 88 VCCINT (power), 90 VCCO (power), 91 GND (power), 99 GND (power), 108 VCCO (power), 110 GND (power), 119 GND (power), 120 VCCINT (power), 127 GND (power), 128 VCCO (power), 130 VCCINT (power), 135 VCCINT (power), 136 GND (power), 144 VCCO (power)
part A text: BANK 0; BANK 1; BANK 7; BANK 2; BANK 6; BANK 3; BANK 5; BANK 4

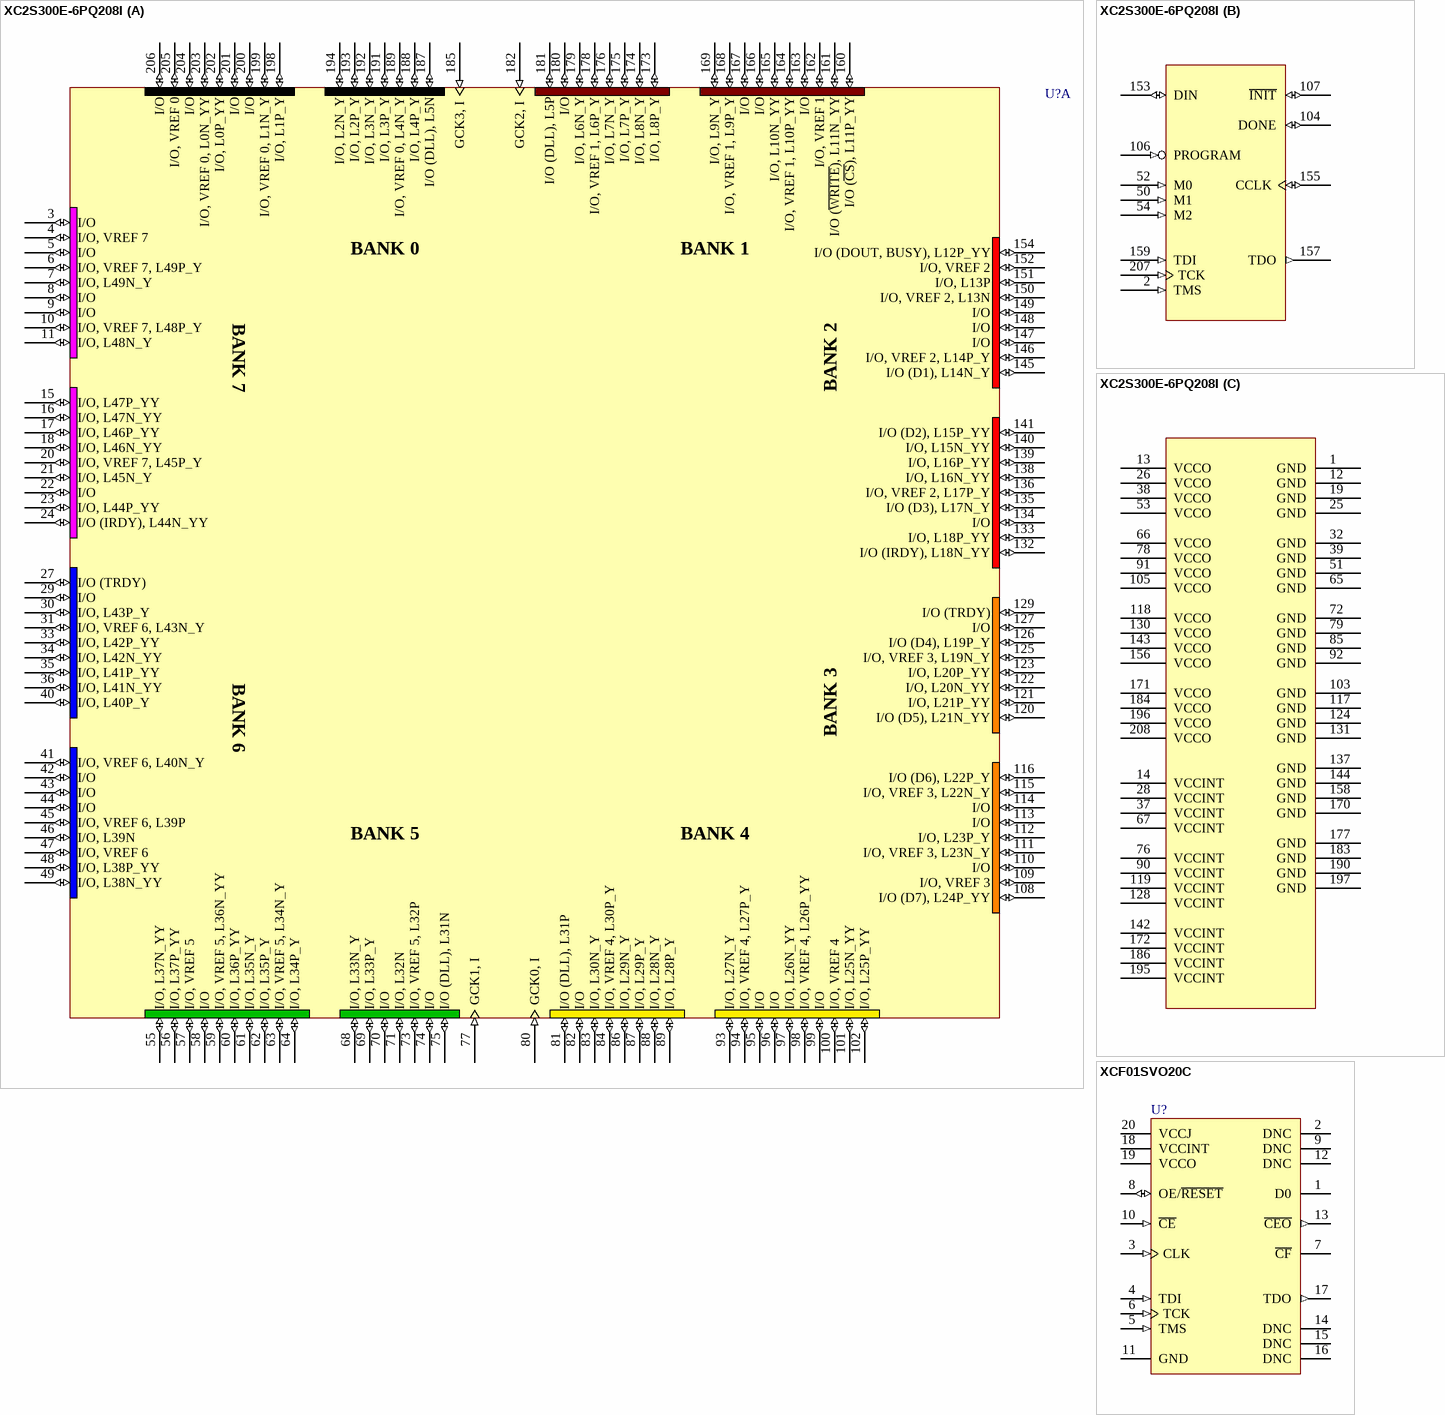
[diagram p4: symbols XC2S300E-6PQ208I to XCF01SVO20C]

## XC2S300E-6PQ208I
designator U?
Spartan-IIE 1.8V FPGA, 208-Pin PQFP, Standard Performance, Industrial Grade; PackageDocument: ver1.1, Oct-2002; Published: 5-Jan-2004; DatasheetDocument: 09-Jul-2003; PackageReference: PQ208; Publisher: Altium Limited; Code_JEDEC: MS-029-FA-1
footprint F-QFP28x28-G208/P.5N (208-Pin Plastic Quad Flat Pack (PQ208))
pcadlib F-QFP28x28-G208/P.5N (208-Pin Plastic Quad Flat Pack (PQ208))
3D model XC2S300E-PQ208 (208-Pin Plastic Quad Flat Pack (PQ208))
signal-integrity model XC2S300E_PQ208 (Spartan-IIE)
part A pins: 3 I/O (io), 4 I/O, VREF 7 (io), 5 I/O (io), 6 I/O, VREF 7, L49P_Y (io), 7 I/O, L49N_Y (io), 8 I/O (io), 9 I/O (io), 10 I/O, VREF 7, L48P_Y (io), 11 I/O, L48N_Y (io), 15 I/O, L47P_YY (io), 16 I/O, L47N_YY (io), 17 I/O, L46P_YY (io), 18 I/O, L46N_YY (io), 20 I/O, VREF 7, L45P_Y (io), 21 I/O, L45N_Y (io), 22 I/O (io), 23 I/O, L44P_YY (io), 24 I/O (IRDY), L44N_YY (io), 27 I/O (TRDY) (io), 29 I/O (io), 30 I/O, L43P_Y (io), 31 I/O, VREF 6, L43N_Y (io), 33 I/O, L42P_YY (io), 34 I/O, L42N_YY (io), 35 I/O, L41P_YY (io), 36 I/O, L41N_YY (io), 40 I/O, L40P_Y (io), 41 I/O, VREF 6, L40N_Y (io), 42 I/O (io), 43 I/O (io), 44 I/O (io), 45 I/O, VREF 6, L39P (io), 46 I/O, L39N (io), 47 I/O, VREF 6 (io), 48 I/O, L38P_YY (io), 49 I/O, L38N_YY (io), 55 I/O, L37N_YY (io), 56 I/O, L37P_YY (io), 57 I/O, VREF 5 (io), 58 I/O (io), 59 I/O, VREF 5, L36N_YY (io), 60 I/O, L36P_YY (io), 61 I/O, L35N_Y (io), 62 I/O, L35P_Y (io), 63 I/O, VREF 5, L34N_Y (io), 64 I/O, L34P_Y (io), 68 I/O, L33N_Y (io), 69 I/O, L33P_Y (io), 70 I/O (io), 71 I/O, L32N (io), 73 I/O, VREF 5, L32P (io), 74 I/O (io), 75 I/O (DLL), L31N (io), 77 GCK1, I (in), 80 GCK0, I (in), 81 I/O (DLL), L31P (io), 82 I/O (io), 83 I/O, L30N_Y (io), 84 I/O, VREF 4, L30P_Y (io), 86 I/O, L29N_Y (io), 87 I/O, L29P_Y (io), 88 I/O, L28N_Y (io), 89 I/O, L28P_Y (io), 93 I/O, L27N_Y (io), 94 I/O, VREF 4, L27P_Y (io), 95 I/O (io), 96 I/O (io), 97 I/O, L26N_YY (io), 98 I/O, VREF 4, L26P_YY (io), 99 I/O (io), 100 I/O, VREF 4 (io), 101 I/O, L25N_YY (io), 102 I/O, L25P_YY (io), 108 I/O (D7), L24P_YY (io), 109 I/O, VREF 3 (io), 110 I/O (io), 111 I/O, VREF 3, L23N_Y (io), 112 I/O, L23P_Y (io), 113 I/O (io), 114 I/O (io), 115 I/O, VREF 3, L22N_Y (io), 116 I/O (D6), L22P_Y (io), 120 I/O (D5), L21N_YY (io), 121 I/O, L21P_YY (io), 122 I/O, L20N_YY (io), 123 I/O, L20P_YY (io), 125 I/O, VREF 3, L19N_Y (io), 126 I/O (D4), L19P_Y (io), 127 I/O (io), 129 I/O (TRDY) (io), 132 I/O (IRDY), L18N_YY (io), 133 I/O, L18P_YY (io), 134 I/O (io), 135 I/O (D3), L17N_Y (io), 136 I/O, VREF 2, L17P_Y (io), 138 I/O, L16N_YY (io), 139 I/O, L16P_YY (io), 140 I/O, L15N_YY (io), 141 I/O (D2), L15P_YY (io), 145 I/O (D1), L14N_Y (io), 146 I/O, VREF 2, L14P_Y (io), 147 I/O (io), 148 I/O (io), 149 I/O (io), 150 I/O, VREF 2, L13N (io), 151 I/O, L13P (io), 152 I/O, VREF 2 (io), 154 I/O (DOUT, BUSY), L12P_YY (io), 160 I/O (~{CS}), L11P_YY (io), 161 I/O (~{WRITE}), L11N_YY (io), 162 I/O, VREF 1 (io), 163 I/O (io), 164 I/O, VREF 1, L10P_YY (io), 165 I/O, L10N_YY (io), 166 I/O (io), 167 I/O (io), 168 I/O, VREF 1, L9P_Y (io), 169 I/O, L9N_Y (io), 173 I/O, L8P_Y (io), 174 I/O, L8N_Y (io), 175 I/O, L7P_Y (io), 176 I/O, L7N_Y (io), 178 I/O, VREF 1, L6P_Y (io), 179 I/O, L6N_Y (io), 180 I/O (io), 181 I/O (DLL), L5P (io), 182 GCK2, I (in), 185 GCK3, I (in), 187 I/O (DLL), L5N (io), 188 I/O, L4P_Y (io), 189 I/O, VREF 0, L4N_Y (io), 191 I/O, L3P_Y (io), 192 I/O, L3N_Y (io), 193 I/O, L2P_Y (io), 194 I/O, L2N_Y (io), 198 I/O, L1P_Y (io), 199 I/O, VREF 0, L1N_Y (io), 200 I/O (io), 201 I/O (io), 202 I/O, L0P_YY (io), 203 I/O, VREF 0, L0N_YY (io), 204 I/O (io), 205 I/O, VREF 0 (io), 206 I/O (io)
part B pins: 2 TMS (in), 50 M1 (in), 52 M0 (in), 54 M2 (in), 104 DONE (io), 106 PROGRAM (in), 107 ~{INIT} (io) "I/O (I\N\I\T\), L24N_YY", 153 DIN (io) "I/O (DIN, D0), L12N_YY", 155 CCLK (io), 157 TDO (out), 159 TDI (in), 207 TCK (in)
part C pins: 1 GND (power), 12 GND (power), 13 VCCO (power), 14 VCCINT (power), 19 GND (power), 25 GND (power), 26 VCCO (power), 28 VCCINT (power), 32 GND (power), 37 VCCINT (power), 38 VCCO (power), 39 GND (power), 51 GND (power), 53 VCCO (power), 65 GND (power), 66 VCCO (power), 67 VCCINT (power), 72 GND (power), 76 VCCINT (power), 78 VCCO (power), 79 GND (power), 85 GND (power), 90 VCCINT (power), 91 VCCO (power), 92 GND (power), 103 GND (power), 105 VCCO (power), 117 GND (power), 118 VCCO (power), 119 VCCINT (power), 124 GND (power), 128 VCCINT (power), 130 VCCO (power), 131 GND (power), 137 GND (power), 142 VCCINT (power), 143 VCCO (power), 144 GND (power), 156 VCCO (power), 158 GND (power), 170 GND (power), 171 VCCO (power), 172 VCCINT (power), 177 GND (power), 183 GND (power), 184 VCCO (power), 186 VCCINT (power), 190 GND (power), 195 VCCINT (power), 196 VCCO (power), 197 GND (power), 208 VCCO (power)
part A text: BANK 0; BANK 1; BANK 7; BANK 2; BANK 6; BANK 3; BANK 5; BANK 4

## XCF01SVO20C
designator U?
XCF00S Series, Platform Flash In-System Programmable Configuration 3.3V PROM, 1-Megabit, Commercial Grade; Published: 5-Jan-2004; DatasheetDocument: Ver2.1, Nov-2003; Publisher: Altium Limited
footprint VO20 (20-Pin Thin Small-Outline Package (VO20))
pcadlib VO20 (20-Pin Thin Small-Outline Package (VO20))
pins: 1 D0 (hiz) "Serial Data Output, for configuring an FPGA in serial mode.", 2 DNC "Leave Unconnected.", 3 CLK (in) "Configuration Clock Input.", 4 TDI (in) "JTAG Serial Data Input.", 5 TMS (in) "JTAG Mode Select Input.", 6 TCK (in) "JTAG Test Clock Input.", 7 ~{CF} (oc) "Configuration Pulse (Open-Drain Output).", 8 OE/~{RESET} (io) "Output Enable/Reset (Open-Drain I/O).", 9 DNC "Leave Unconnected.", 10 ~{CE} (in) "Chip Enable Input.", 11 GND (power) "Ground", 12 DNC "Leave Unconnected.", 13 ~{CEO} (out) "Chip Enable Output, connects to the CE input of the next PROM in the chain.", 14 DNC "Leave Unconnected.", 15 DNC "Leave Unconnected.", 16 DNC "Leave Unconnected.", 17 TDO (out) "JTAG Serial Data Output.", 18 VCCINT (power) "+3.3V Supply for internal logic.", 19 VCCO (power) "+3.3V, 2.5V, or 1.8V I/O Supply.", 20 VCCJ (power) "+3.3V or 2.5V JTAG Signals I/O Supply."